# Altium footprint library TestPad.PcbLib: 1 footprints
Each footprint in its own frame and in the unit in brackets; x right, y up, seen from the top. Pads: shape width x height; smd on the part's side, far side on the other; paste and mask are expansions set on the pad; w line width, h text height; cw(c..) or ccw(c..) is an arc to the next point about the centre after c.
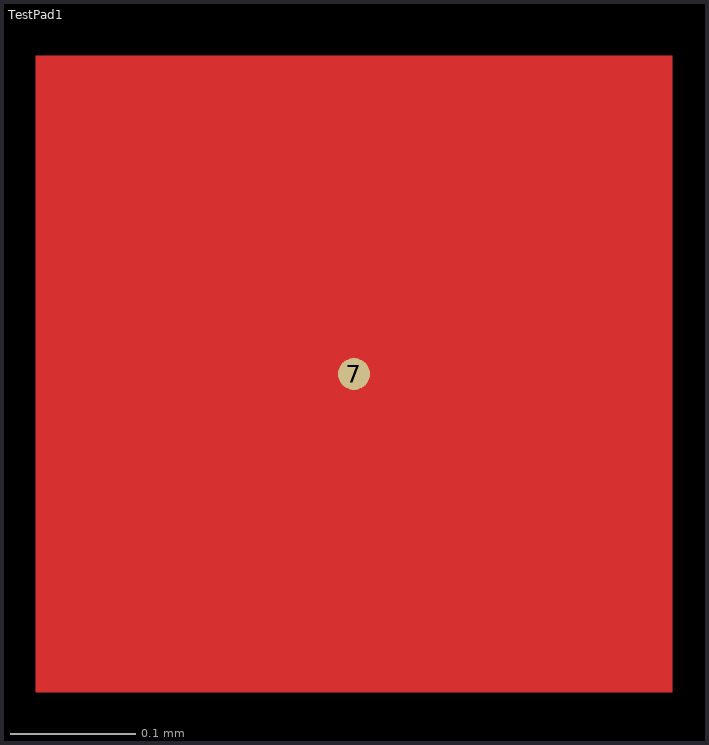
[diagram p0: the footprint, top view; thin cyan lines are the x and y axes]

## TestPad1 [mil]
pads (1):
  round 1 smd: 7(-15,40)
Top Layer:
  region: -25,50 -5,50 -5,30 -25,30